# EAGLE library part MC1.5/8-GF-3.5 (library C8051F300)
MINI-COMBICON 3.5
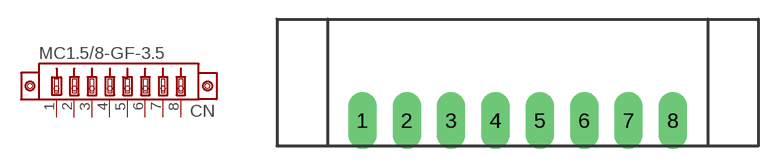
[diagram p12: symbol with the pads of MC1.5/8-GF-3.5; footprint MC1.5/8-GF-3.5]

Designator prefix CN

## MC1.5/8-GF-3.5  [MC1.5/8-GF-3.5]
1  P$1  pas
2  P$2  pas
3  P$3  pas
4  P$4  pas
5  P$5  pas
6  P$6  pas
7  P$7  pas
8  P$8  pas

## Footprint MC1.5/8-GF-3.5 (pad centres in mm)
drill 1.499 long: 1 -12.25,0; 2 -8.75,0; 3 -5.25,0; 4 -1.75,0; 5 1.75,0; 6 5.25,0; 7 8.75,0; 8 12.25,0